# EAGLE library part ETH-POE (library ethernet_poe_stm_v1.0)
POE
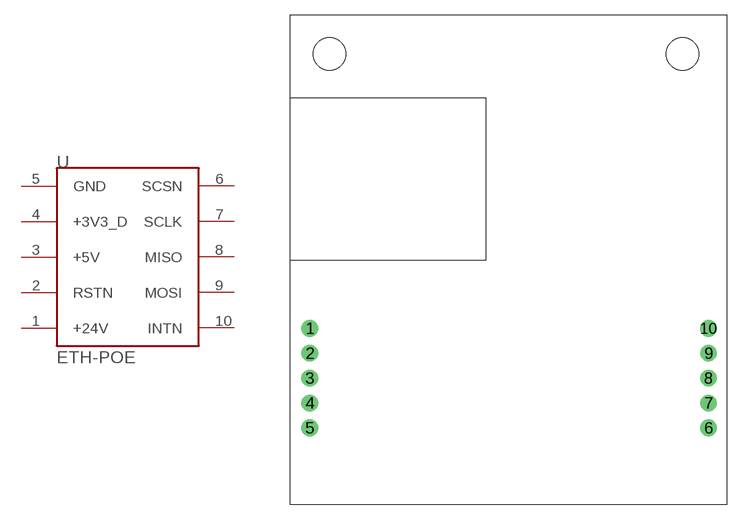
[diagram p2: symbol with the pads of HDRVR10W64P4000X254_2X5_1016X508X254B; footprint HDRVR10W64P4000X254_2X5_1016X508X254B]

Designator prefix -

## ETH-POE  [HDRVR10W64P4000X254_2X5_1016X508X254B]
1  +24V
2  RSTN
3  +5V
4  +3V3_D
5  GND
6  SCSN
7  SCLK
8  MISO
9  MOSI
10  INTN

## Footprint HDRVR10W64P4000X254_2X5_1016X508X254B (pad centres in mm)
Double-row, 10-pin Receptacle Header (Female) Straight, 40.00 mm (1.57 in) row pitch, 2.54 mm (0.10 in) col pitch, 2.54 mm insulator length, 10.16 X 5.08 X 2.54 mm body Double-row (2X5), 10-pin Receptacle Header (Female) Straight package with 40.00 mm (1.57 in) row pitch, 2.54 mm (0.10 in) col pitch, 0.64 mm lead width, 3.00 mm tail length and 2.54 mm insulator length with overall size 10.16 X 5.08 X 2.54 mm, pin pattern - clockwise from top left
drill 1.105 pad 1.705: 1 2,18; 2 2,15.46; 3 2,12.92; 4 2,10.38; 5 2,7.84; 6 42.64,7.84; 7 42.64,10.38; 8 42.64,12.92; 9 42.64,15.46; 10 42.64,18
hole 3.3 at 4,46
hole 3.3 at 40,46